# Altium footprint library SODFL2512X90N.PcbLib: 1 footprints
Each footprint in its own frame and in the unit in brackets; x right, y up, seen from the top. Pads: shape width x height; smd on the part's side, far side on the other; paste and mask are expansions set on the pad; w line width, h text height; cw(c..) or ccw(c..) is an arc to the next point about the centre after c.
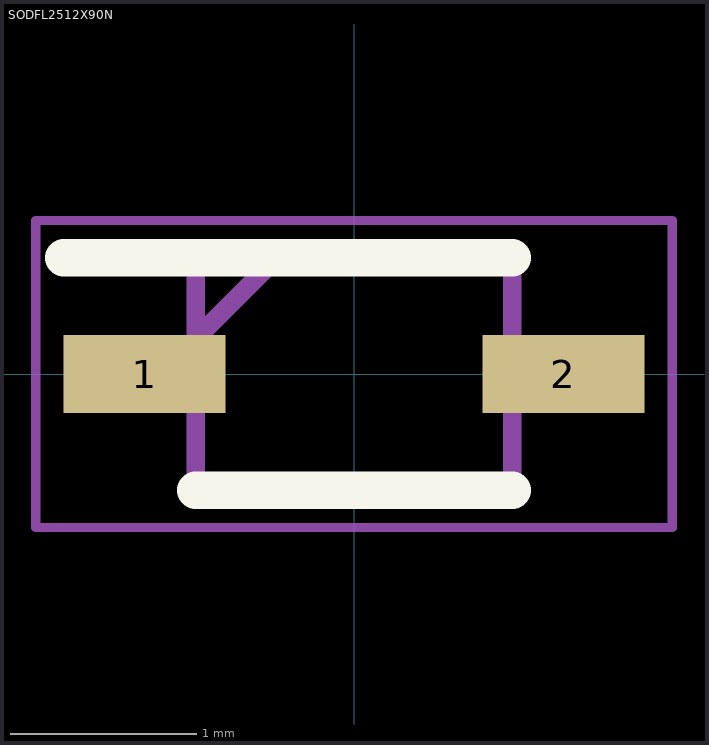
[diagram p0: the footprint, top view; thin cyan lines are the x and y axes]

## SODFL2512X90N [mm]
pads (2):
  rect 0.87x0.42 smd: 1(-1.125,0) 2(1.125,0)
Top Overlay:
  lines w0.2: -1.56,0.625 0.85,0.625 ; -0.85,-0.625 0.85,-0.625
Mechanical 15:
  lines w0.1: -0.85,0.19 -0.415,0.625 ; -0.85,-0.625 0.85,-0.625 0.85,0.625 -0.85,0.625 -0.85,-0.625
Mechanical 20:
  lines w0.05: -1.71,-0.825 1.71,-0.825 1.71,0.825 -1.71,0.825 -1.71,-0.825
3D body "UDZLVTE-17150.stp": height 5.8, standoff -4.65, extent -10,-3.376 10,3.376